# Altium integrated library TI Data Converters Digital to Analog Converter.IntLib: 1533 symbols (part 56 of 99)
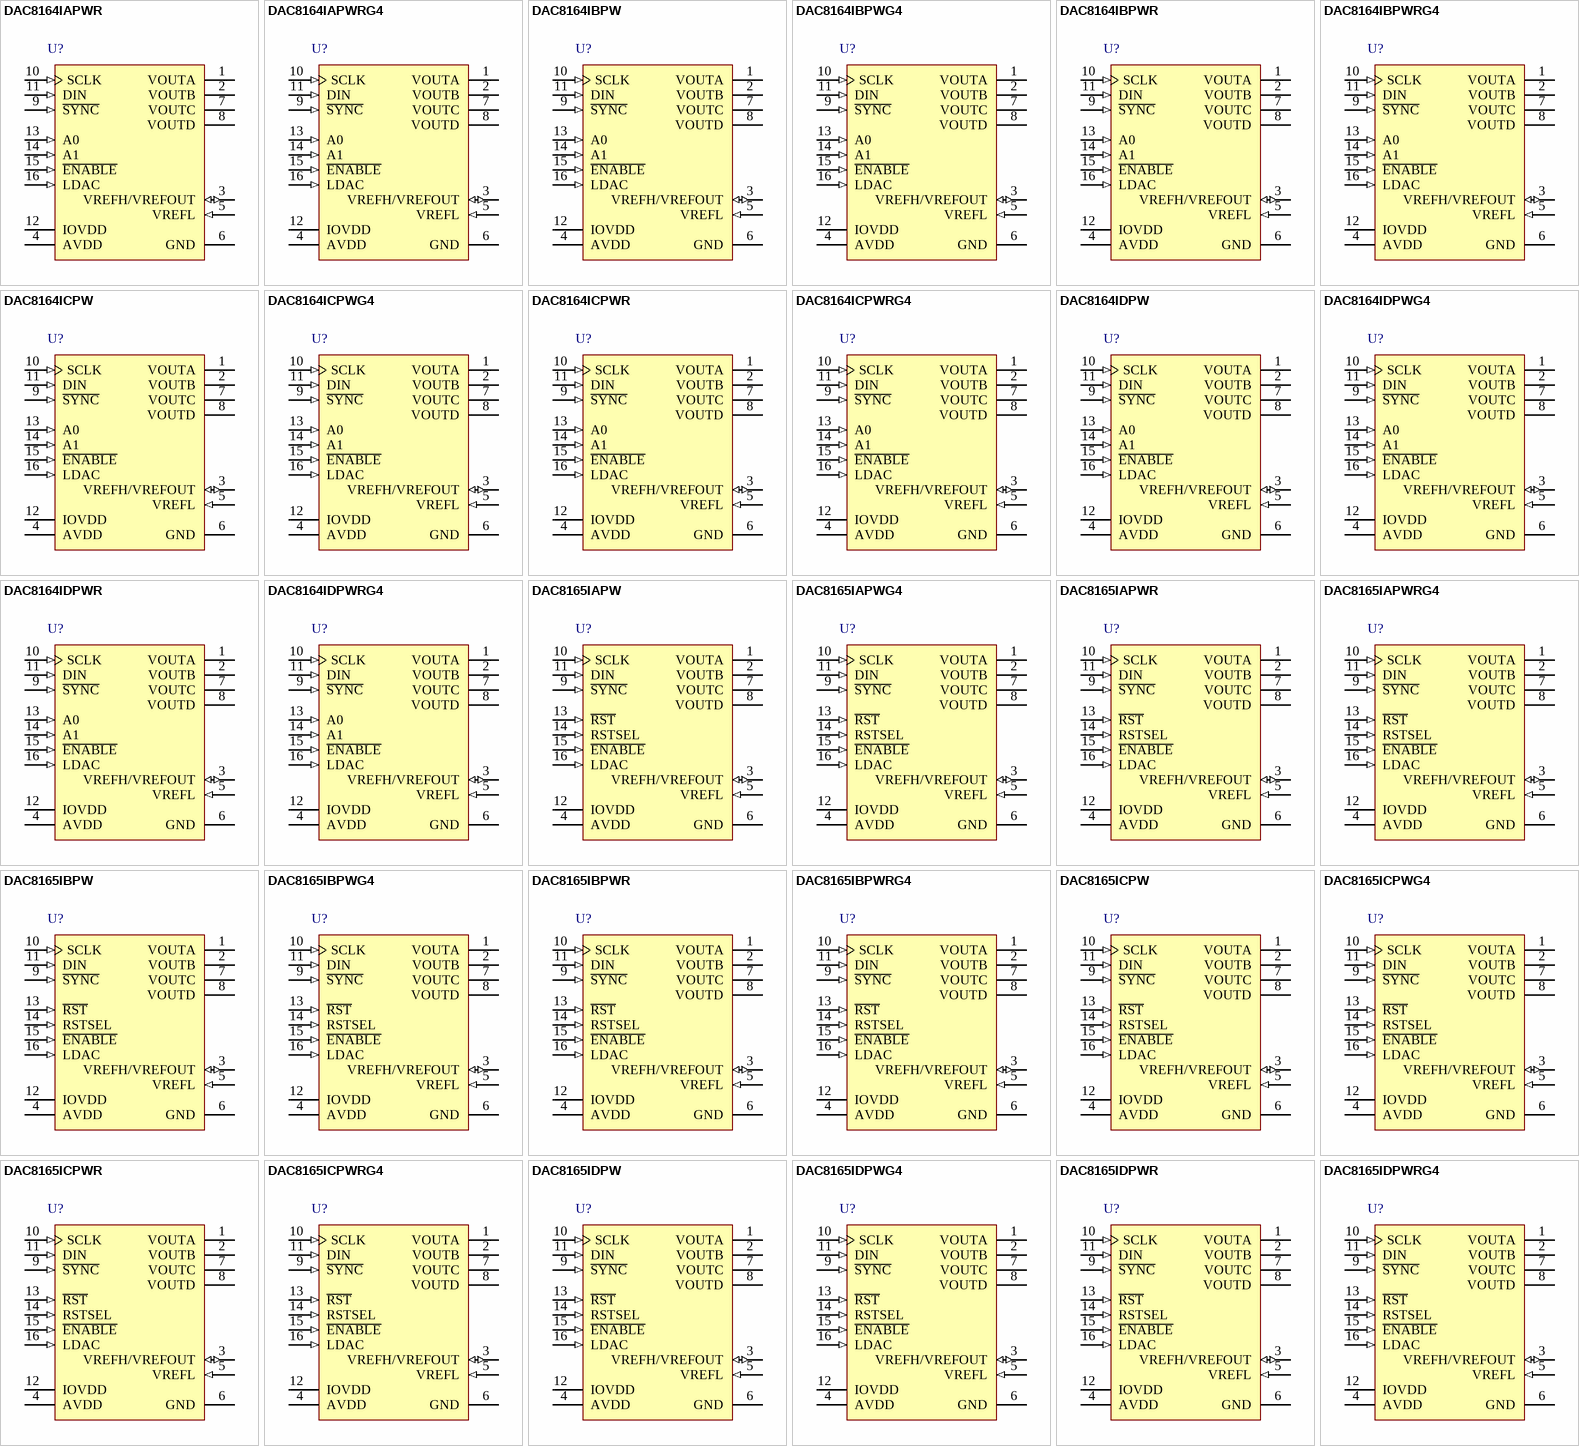
[diagram p128: symbols DAC8164IAPWR to DAC8165IDPWRG4]

## DAC8165IDPWRG4
designator U?
14-Bit, Quad Channel, Ultra-Low Glitch, Voltage Output DAC with 2.5 V, 2 ppm/degC Internal Reference, -40 to 105 degC, 16-pin SOP (PW16), Green (RoHS & no Sb/Br); Manufacturer: Texas Instruments; PartNumber: DAC8165IDPWRG4; DAC Channels: 4; DNL(Max)(+/-LSB): 1; INL(Max)(+/-LSB): 2; Interface: Serial SPI; Power Consumption(Typ)(mW): 2.6; Resolution(Bits): 14; Settling Time(us): 8; SFDR(dB): 79; SNR(dB): 87; SubFamily: Precision DAC (=<10MSPS); DatasheetVersion: SBAS409B; PackageVersion: 4040064-4/G, 02/2011; PackageReference: PW16; PackageDescription: 16-Pin Plastic Small Outline, Body 5 x 4.4 mm, Pitch 0.65 mm; Supplier 1: Digi-Key; Supplier Part Number 1: DAC8165IDPWRG4-ND; Supplier 2: Mouser; Supplier Part Number 2: 595-DAC8165IDPWRG4; Eco-Plan: Green (RoHS & no Sb/Br); Mounting Technology: Surface Mount; Code_JEDEC: MO-153; ComponentLink1Description: Manufacturer URL; ComponentLink1URL: http://www.ti.com/; ComponentLink2Description: Datasheet; ComponentLink2URL: http://www.ti.com/general/docs/lit/getliterature.tsp?genericPartNumber=DAC8165&fileType=pdf; ComponentLink3Description: Package Specification; ComponentLink3URL: http://www.ti.com/lit/ml/mpds361/mpds361.pdf
footprint TI-PW16_N (SOP, 16-Leads, Body 5x4.4mm, Pitch 0.65mm, IPC Medium Density)
footprint TI-PW16_L (SOP, 16-Leads, Body 5x4.4mm, Pitch 0.65mm, IPC High Density)
footprint TI-PW16_M (SOP, 16-Leads, Body 5x4.4mm, Pitch 0.65mm, IPC Low Density)
pins: 1 VOUTA (hiz) "Analog output voltage from DAC A", 2 VOUTB (hiz) "Analog output voltage from DAC B", 3 VREFH/VREFOUT (io) "Positive reference input / reference output 2.5V if internal reference used.", 4 AVDD (power) "Power-supply input, 2.7V to 5.5V", 5 VREFL (in) "Negative reference input", 6 GND (power) "Ground reference point for all circuitry on the part", 7 VOUTC (hiz) "Analog output voltage from DAC C", 8 VOUTD (hiz) "Analog output voltage from DAC D", 9 ~{SYNC} (in) "Level-triggered control input (active low). This input is the frame synchronization signal for the input data. When S\Y\N\C\ goes low, it enables the input shift register, and data are sampled on subsequent falling clock (See Datasheet)", 10 SCLK (in) "Serial clock input. Data can be transferred at rates up to 50MHz. Schmitt-Trigger logic input.", 11 DIN (in) "Serial data input. Data are clocked into the 24-bit input shift register on each falling edge of the serial clock input. Schmitt-Trigger logic input.", 12 IOVDD (power) "Digital input-output power supply", 13 ~{RST} (in) "Asynchronous reset. Active low. If R\S\T\ is low, all DAC channels reset either to zero-scale (RSTSEL = 0) or to mid-scale (RSTSEL = 1)", 14 RSTSEL (in) "Reset select. If RSTSEL is low, input coding is binary; if high = two's complement.", 15 ~{ENABLE} (in) "The enable pin (active low) connects the SPI interface to the serial port", 16 LDAC (in) "Load DACs; rising edge triggered, loads all DAC registers"

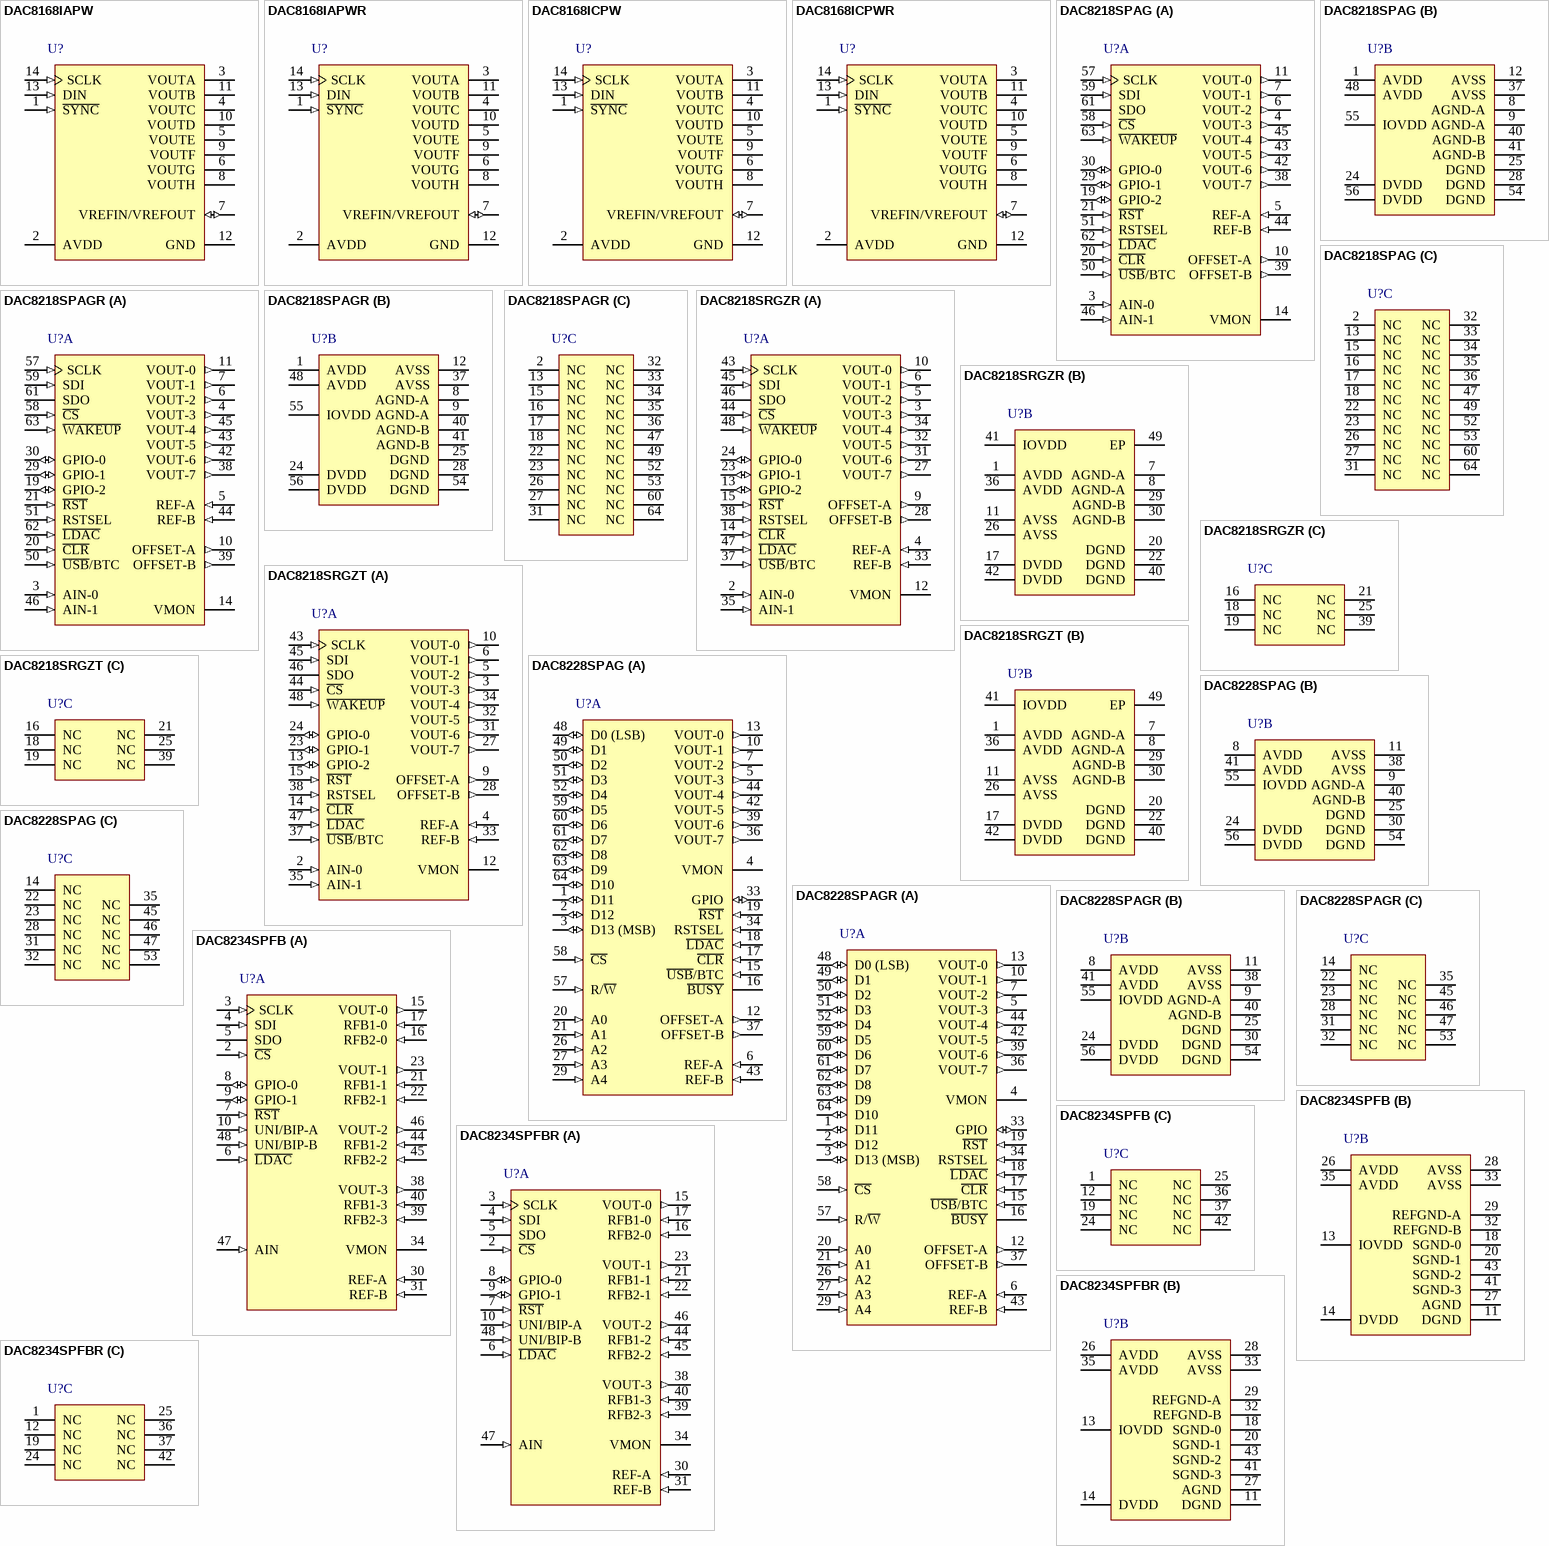
[diagram p44: symbols DAC8168IAPW to DAC8234SPFBR]

## DAC8168IAPW
designator U?
14-Bit, Octal Channel, Ultra-Low Glitch, Voltage Output DAC with 2.5 V, 2 ppm/degC Internal Reference, -40 to 125 degC, 14-pin SOP (PW14), Green (RoHS & no Sb/Br); Manufacturer: Texas Instruments; PartNumber: DAC8168IAPW; DAC Channels: 8; DNL(Max)(+/-LSB): 0.5; INL(Max)(+/-LSB): 4; Interface: Serial SPI; Power Consumption(Typ)(mW): 2.2; Resolution(Bits): 14; Settling Time(us): 5; SFDR(dB): 63; SNR(dB): 83; SubFamily: Precision DAC (=<10MSPS); DatasheetVersion: SBAS430D; PackageVersion: 4040064-3/G, 02/2011; PackageReference: PW14; PackageDescription: 14-Pin Plastic Small Outline, Body 5 x 4.4 mm, Pitch 0.65 mm; Supplier 1: Digi-Key; Supplier Part Number 1: 296-24405-5-ND; Supplier 2: Mouser; Supplier Part Number 2: 595-DAC8168IAPW; Eco-Plan: Green (RoHS & no Sb/Br); Mounting Technology: Surface Mount; Code_JEDEC: MO-153; ComponentLink1Description: Manufacturer URL; ComponentLink1URL: http://www.ti.com/; ComponentLink2Description: Datasheet; ComponentLink2URL: http://www.ti.com/general/docs/lit/getliterature.tsp?genericPartNumber=DAC8168&fileType=pdf; ComponentLink3Description: Package Specification; ComponentLink3URL: http://www.ti.com/litv/pdf/mpds360
footprint TI-PW14_N (SOP, 14-Leads, Body 5x4.4mm, Pitch 0.65mm, IPC Medium Density)
footprint TI-PW14_L (SOP, 14-Leads, Body 5x4.4mm, Pitch 0.65mm, IPC High Density)
footprint TI-PW14_M (SOP, 14-Leads, Body 5x4.4mm, Pitch 0.65mm, IPC Low Density)
pins: 1 ~{SYNC} (in) "Level-triggered control input (active low). This input is the frame synchronization signal for the input data. When S\Y\N\C\ goes low, it enables the input shift register, and data are sampled on subsequent falling clock (See Datasheet)", 2 AVDD (power) "Power-supply input, 2.7V to 5.5V", 3 VOUTA (hiz) "Analog output voltage from DAC A", 4 VOUTC (hiz) "Analog output voltage from DAC C", 5 VOUTE (hiz) "Analog output voltage from DAC E", 6 VOUTG (hiz) "Analog output voltage from DAC G", 7 VREFIN/VREFOUT (io) "Positive reference input / reference output 2.5V if internal reference used.", 8 VOUTH (hiz) "Analog output voltage from DAC H", 9 VOUTF (hiz) "Analog output voltage from DAC F", 10 VOUTD (hiz) "Analog output voltage from DAC D", 11 VOUTB (hiz) "Analog output voltage from DAC B", 12 GND (power) "Ground reference point for all circuitry on the device", 13 DIN (in) "Serial data input. Data are clocked into the 32-bit input shift register on each falling edge of the serial clock input. Schmitt-Trigger logic input.", 14 SCLK (in) "Serial clock input. Data can be transferred at rates up to 50MHz. Schmitt-Trigger logic input."

## DAC8168IAPWR
designator U?
14-Bit, Octal Channel, Ultra-Low Glitch, Voltage Output DAC with 2.5 V, 2 ppm/degC Internal Reference, -40 to 125 degC, 14-pin SOP (PW14), Green (RoHS & no Sb/Br); Manufacturer: Texas Instruments; PartNumber: DAC8168IAPWR; DAC Channels: 8; DNL(Max)(+/-LSB): 0.5; INL(Max)(+/-LSB): 4; Interface: Serial SPI; Power Consumption(Typ)(mW): 2.2; Resolution(Bits): 14; Settling Time(us): 5; SFDR(dB): 63; SNR(dB): 83; SubFamily: Precision DAC (=<10MSPS); DatasheetVersion: SBAS430D; PackageVersion: 4040064-3/G, 02/2011; PackageReference: PW14; PackageDescription: 14-Pin Plastic Small Outline, Body 5 x 4.4 mm, Pitch 0.65 mm; Supplier 1: Digi-Key; Supplier Part Number 1: DAC8168IAPWR-ND; Supplier 2: Mouser; Supplier Part Number 2: 595-DAC8168IAPWR; Eco-Plan: Green (RoHS & no Sb/Br); Mounting Technology: Surface Mount; Code_JEDEC: MO-153; ComponentLink1Description: Manufacturer URL; ComponentLink1URL: http://www.ti.com/; ComponentLink2Description: Datasheet; ComponentLink2URL: http://www.ti.com/general/docs/lit/getliterature.tsp?genericPartNumber=DAC8168&fileType=pdf; ComponentLink3Description: Package Specification; ComponentLink3URL: http://www.ti.com/litv/pdf/mpds360
footprint TI-PW14_N (SOP, 14-Leads, Body 5x4.4mm, Pitch 0.65mm, IPC Medium Density)
footprint TI-PW14_L (SOP, 14-Leads, Body 5x4.4mm, Pitch 0.65mm, IPC High Density)
footprint TI-PW14_M (SOP, 14-Leads, Body 5x4.4mm, Pitch 0.65mm, IPC Low Density)
pins: 1 ~{SYNC} (in) "Level-triggered control input (active low). This input is the frame synchronization signal for the input data. When S\Y\N\C\ goes low, it enables the input shift register, and data are sampled on subsequent falling clock (See Datasheet)", 2 AVDD (power) "Power-supply input, 2.7V to 5.5V", 3 VOUTA (hiz) "Analog output voltage from DAC A", 4 VOUTC (hiz) "Analog output voltage from DAC C", 5 VOUTE (hiz) "Analog output voltage from DAC E", 6 VOUTG (hiz) "Analog output voltage from DAC G", 7 VREFIN/VREFOUT (io) "Positive reference input / reference output 2.5V if internal reference used.", 8 VOUTH (hiz) "Analog output voltage from DAC H", 9 VOUTF (hiz) "Analog output voltage from DAC F", 10 VOUTD (hiz) "Analog output voltage from DAC D", 11 VOUTB (hiz) "Analog output voltage from DAC B", 12 GND (power) "Ground reference point for all circuitry on the device", 13 DIN (in) "Serial data input. Data are clocked into the 32-bit input shift register on each falling edge of the serial clock input. Schmitt-Trigger logic input.", 14 SCLK (in) "Serial clock input. Data can be transferred at rates up to 50MHz. Schmitt-Trigger logic input."

## DAC8168ICPW
designator U?
14-Bit, Octal Channel, Ultra-Low Glitch, Voltage Output DAC with 2.5 V, 2 ppm/degC Internal Reference, -40 to 125 degC, 16-pin SOP (PW16), Green (RoHS & no Sb/Br); Manufacturer: Texas Instruments; PartNumber: DAC8168ICPW; DAC Channels: 8; DNL(Max)(+/-LSB): 0.5; INL(Max)(+/-LSB): 4; Interface: Serial SPI; Power Consumption(Typ)(mW): 2.2; Resolution(Bits): 14; Settling Time(us): 5; SFDR(dB): 63; SNR(dB): 83; SubFamily: Precision DAC (=<10MSPS); DatasheetVersion: SBAS430D; PackageVersion: 4040064-4/G, 02/2011; PackageReference: PW16; PackageDescription: 16-Pin Plastic Small Outline, Body 5 x 4.4 mm, Pitch 0.65 mm; Supplier 1: Digi-Key; Supplier Part Number 1: 296-24406-5-ND; Supplier 2: Farnell; Supplier Part Number 2: 1735562; Supplier 3: Newark; Supplier Part Number 3: 08R4453; Supplier 4: Mouser; Supplier Part Number 4: 595-DAC8168ICPW; Eco-Plan: Green (RoHS & no Sb/Br); Mounting Technology: Surface Mount; Code_JEDEC: MO-153; ComponentLink1Description: Manufacturer URL; ComponentLink1URL: http://www.ti.com/; ComponentLink2Description: Datasheet; ComponentLink2URL: http://www.ti.com/general/docs/lit/getliterature.tsp?genericPartNumber=DAC8168&fileType=pdf; ComponentLink3Description: Package Specification; ComponentLink3URL: http://www.ti.com/lit/ml/mpds361/mpds361.pdf
footprint TI-PW16_N (SOP, 16-Leads, Body 5x4.4mm, Pitch 0.65mm, IPC Medium Density)
footprint TI-PW16_L (SOP, 16-Leads, Body 5x4.4mm, Pitch 0.65mm, IPC High Density)
footprint TI-PW16_M (SOP, 16-Leads, Body 5x4.4mm, Pitch 0.65mm, IPC Low Density)
pins: 1 ~{SYNC} (in) "Level-triggered control input (active low). This input is the frame synchronization signal for the input data. When S\Y\N\C\ goes low, it enables the input shift register, and data are sampled on subsequent falling clock (See Datasheet)", 2 AVDD (power) "Power-supply input, 2.7V to 5.5V", 3 VOUTA (hiz) "Analog output voltage from DAC A", 4 VOUTC (hiz) "Analog output voltage from DAC C", 5 VOUTE (hiz) "Analog output voltage from DAC E", 6 VOUTG (hiz) "Analog output voltage from DAC G", 7 VREFIN/VREFOUT (io) "Positive reference input / reference output 2.5V if internal reference used.", 8 VOUTH (hiz) "Analog output voltage from DAC H", 9 VOUTF (hiz) "Analog output voltage from DAC F", 10 VOUTD (hiz) "Analog output voltage from DAC D", 11 VOUTB (hiz) "Analog output voltage from DAC B", 12 GND (power) "Ground reference point for all circuitry on the device", 13 DIN (in) "Serial data input. Data are clocked into the 32-bit input shift register on each falling edge of the serial clock input. Schmitt-Trigger logic input.", 14 SCLK (in) "Serial clock input. Data can be transferred at rates up to 50MHz. Schmitt-Trigger logic input."

## DAC8168ICPWR
designator U?
14-Bit, Octal Channel, Ultra-Low Glitch, Voltage Output DAC with 2.5 V, 2 ppm/degC Internal Reference, -40 to 125 degC, 16-pin SOP (PW16), Green (RoHS & no Sb/Br); Manufacturer: Texas Instruments; PartNumber: DAC8168ICPWR; DAC Channels: 8; DNL(Max)(+/-LSB): 0.5; INL(Max)(+/-LSB): 4; Interface: Serial SPI; Power Consumption(Typ)(mW): 2.2; Resolution(Bits): 14; Settling Time(us): 5; SFDR(dB): 63; SNR(dB): 83; SubFamily: Precision DAC (=<10MSPS); DatasheetVersion: SBAS430D; PackageVersion: 4040064-4/G, 02/2011; PackageReference: PW16; PackageDescription: 16-Pin Plastic Small Outline, Body 5 x 4.4 mm, Pitch 0.65 mm; Supplier 1: Digi-Key; Supplier Part Number 1: DAC8168ICPWR-ND; Supplier 2: Mouser; Supplier Part Number 2: 595-DAC8168ICPWR; Eco-Plan: Green (RoHS & no Sb/Br); Mounting Technology: Surface Mount; Code_JEDEC: MO-153; ComponentLink1Description: Manufacturer URL; ComponentLink1URL: http://www.ti.com/; ComponentLink2Description: Datasheet; ComponentLink2URL: http://www.ti.com/general/docs/lit/getliterature.tsp?genericPartNumber=DAC8168&fileType=pdf; ComponentLink3Description: Package Specification; ComponentLink3URL: http://www.ti.com/lit/ml/mpds361/mpds361.pdf
footprint TI-PW16_N (SOP, 16-Leads, Body 5x4.4mm, Pitch 0.65mm, IPC Medium Density)
footprint TI-PW16_L (SOP, 16-Leads, Body 5x4.4mm, Pitch 0.65mm, IPC High Density)
footprint TI-PW16_M (SOP, 16-Leads, Body 5x4.4mm, Pitch 0.65mm, IPC Low Density)
pins: 1 ~{SYNC} (in) "Level-triggered control input (active low). This input is the frame synchronization signal for the input data. When S\Y\N\C\ goes low, it enables the input shift register, and data are sampled on subsequent falling clock (See Datasheet)", 2 AVDD (power) "Power-supply input, 2.7V to 5.5V", 3 VOUTA (hiz) "Analog output voltage from DAC A", 4 VOUTC (hiz) "Analog output voltage from DAC C", 5 VOUTE (hiz) "Analog output voltage from DAC E", 6 VOUTG (hiz) "Analog output voltage from DAC G", 7 VREFIN/VREFOUT (io) "Positive reference input / reference output 2.5V if internal reference used.", 8 VOUTH (hiz) "Analog output voltage from DAC H", 9 VOUTF (hiz) "Analog output voltage from DAC F", 10 VOUTD (hiz) "Analog output voltage from DAC D", 11 VOUTB (hiz) "Analog output voltage from DAC B", 12 GND (power) "Ground reference point for all circuitry on the device", 13 DIN (in) "Serial data input. Data are clocked into the 32-bit input shift register on each falling edge of the serial clock input. Schmitt-Trigger logic input.", 14 SCLK (in) "Serial clock input. Data can be transferred at rates up to 50MHz. Schmitt-Trigger logic input."

## DAC8218SPAG
designator U?
Octal, Low power ,14-Bit, +/- 16.5 V Output Serial Input DAC, -40 to 105 degC, 64-pin QFP (PAG64), Green (RoHS & no Sb/Br); Manufacturer: Texas Instruments; PartNumber: DAC8218SPAG; DAC Channels: 8; DNL(Max)(+/-LSB): 1; Interface: Serial SPI; Power Consumption(Typ)(mW): 140; Resolution(Bits): 14; Settling Time(us): 15; SubFamily: Precision DAC (=<10MSPS); DatasheetVersion: SBAS460A; PackageVersion: 4040282/C, 11/1996; PackageReference: PAG64; PackageDescription: 64-Pin Plastic Flat Pack, Body 10 x 10 mm, Pitch 0.50 mm; Supplier 1: Digi-Key; Supplier Part Number 1: 296-27422-5-ND; Supplier 2: Mouser; Supplier Part Number 2: 595-DAC8218SPAG; Eco-Plan: Green (RoHS & no Sb/Br); INL(Max)(+/-LSB): 1; Mounting Technology: Surface Mount; Code_JEDEC: MS-026; ComponentLink1Description: Manufacturer URL; ComponentLink1URL: http://www.ti.com/; ComponentLink2Description: Datasheet; ComponentLink2URL: http://www.ti.com/general/docs/lit/getliterature.tsp?genericPartNumber=DAC8218&fileType=pdf; ComponentLink3Description: Package Specification; ComponentLink3URL: http://www.ti.com/lit/ml/mtqf006a/mtqf006a.pdf
footprint TI-PAG64_N (QFP, 64-Leads, Body 10x10mm, Pitch 0.5mm, IPC Medium Density)
footprint TI-PAG64_L (QFP, 64-Leads, Body 10x10mm, Pitch 0.5mm, IPC High Density)
footprint TI-PAG64_M (QFP, 64-Leads, Body 10x10mm, Pitch 0.5mm, IPC Low Density)
part A pins: 3 AIN-0 (in) "Auxiliary analog input 0, directly routed to the analog mux", 4 VOUT-3 (out) "DAC-3 output", 5 REF-A (in) "Group A(1) reference input", 6 VOUT-2 (out) "DAC-2 output", 7 VOUT-1 (out) "DAC-1 output", 10 OFFSET-A (out) "OFFSET DAC-A analog output. Must be connected to AGND-A during single power-supply operation (AVSS = 0V). This pin is not intended to drive an external load.", 11 VOUT-0 (out) "DAC-0 output", 14 VMON (hiz) "Analog monitor output. This pin is either in Hi-Z status, connected to one of the eight DAC outputs, reference buffer outputs, offset DAC outputs, or one of the auxiliary analog inputs, depending on the content of the (See Datasheet)", 19 GPIO-2 (io) "General-purpose digital input/output 2. This pin is a bidirectional digital input/output, open-drain and requires an external pull-up resistor. See the GPIO Pins section for details.", 20 ~{CLR} (in) "Clear input, level triggered. When the C\L\R\ pin is logic '0', all VOUT-X pins connect to AGND-x through switches and internal low-impedance. When the C\L\R\ pin is logic '1', all VOUT-X pins connect to the amplifier (See Datasheet)", 21 ~{RST} (in) "Reset input (active low). Logic low on this pin resets the DAC registers and DACs to the values defined by the RSTSEL pin. C\S\ must be logic high when R\S\T\ is active.", 29 GPIO-1 (io) "General-purpose digital input/output 1. This pin is a bidirectional digital input/output, open-drain and requires an external resistor. See the GPIO Pins section for details.", 30 GPIO-0 (io) "General-purpose digital input/output 0. This pin is a bidirectional digital input/output, open-drain and requires an external resistor. See the GPIO Pins section for details.", 38 VOUT-7 (out) "DAC-7 output", 39 OFFSET-B (out) "OFFSET DAC-B analog output. Must be connected to AGND-B during single-supply operation (AVSS = 0V).", 42 VOUT-6 (out) "DAC-6 output", 43 VOUT-5 (out) "DAC-5 output", 44 REF-B (in) "Group B reference input", 45 VOUT-4 (out) "DAC-4 output", 46 AIN-1 (in) "Auxiliary analog input 1, directly routed to the analog mux", 50 ~{USB}/BTC (in) "Data format selection of Input DAC data and Offset DAC data. Data are in straight binary format when connected to DGND or in twos complement format when connected to IOVDD. The command data are always in straight binary (See Datasheet)", 51 RSTSEL (in) "Output reset selection. Selects the output voltage on the VOUT pin after power-on or hardware reset. Refer to the Power-On Reset section for details.", 57 SCLK (in) "SPI bus serial clock input", 58 ~{CS} (in) "SPI bus chip select input (active low). Data are not clocked into SDI unless C\S\ is low. When C\S\ is high, SDO is in a high-impedance state and the SCLK and SDI signals are blocked from the device.", 59 SDI (in) "SPI bus serial data input", 61 SDO (hiz) "SPI bus serial data output. When the DSDO bit = '0', the SDO pin works as an output in normal operation. When the DSDO bit = '1', SDO is always in a Hi-Z state, regardless of the C\S\ pin status. Refer to the Timing Diagrams (See Datasheet)", 62 ~{LDAC} (in) "Load DAC latch control input (active low). When L\D\A\C\ is low, the DAC latch is transparent and the contents of the DAC Data Register are transferred to it. The DAC output changes to the corresponding level simultaneously (See Datasheet)", 63 ~{WAKEUP} (in) "Wake-up input (active low). Restores the SPI from sleep to normal operation. See the Daisy-Chain Operation section for details."
part B pins: 1 AVDD (power) "Positive analog power supply", 8 AGND-A (power) "Group A analog ground and the ground of REF-A. This pin must be tied to AGND-B and DGND.", 9 AGND-A (power) "Group A analog ground and the ground of REF-A. This pin must be tied to AGND-B and DGND.", 12 AVSS (power) "Negative analog power supply", 24 DVDD (power) "Digital power supply", 25 DGND (power) "Digital ground", 28 DGND (power) "Digital ground", 37 AVSS (power) "Negative analog power supply", 40 AGND-B (power) "Group B(1) analog ground and the ground of REF-B. This pin must be tied to AGND-A and DGND.", 41 AGND-B (power) "Group B analog ground and the ground of REF-B. This pin must be tied to AGND-A and DGND.", 48 AVDD (power) "Positive analog power supply", 54 DGND (power) "Digital ground", 55 IOVDD (power) "Interface power", 56 DVDD (power) "Digital power supply"
part C pins: 2 NC "Not connected", 13 NC "Not connected", 15 NC "Not connected", 16 NC "Not connected", 17 NC "Not connected", 18 NC "Not connected", 22 NC "Not connected", 23 NC "Not connected", 26 NC "Not connected", 27 NC "Not connected", 31 NC "Not connected", 32 NC "Not connected", 33 NC "Not connected", 34 NC "Not connected", 35 NC "Not connected", 36 NC "Not connected", 47 NC "Not connected", 49 NC "Not connected", 52 NC "Not connected", 53 NC "Not connected", 60 NC "Not connected", 64 NC "Not connected"

## DAC8218SPAGR
designator U?
Octal, Low power ,14-Bit, +/- 16.5 V Output Serial Input DAC, -40 to 105 degC, 64-pin QFP (PAG64), Green (RoHS & no Sb/Br); Manufacturer: Texas Instruments; PartNumber: DAC8218SPAGR; DAC Channels: 8; DNL(Max)(+/-LSB): 1; Interface: Serial SPI; Power Consumption(Typ)(mW): 140; Resolution(Bits): 14; Settling Time(us): 15; SubFamily: Precision DAC (=<10MSPS); DatasheetVersion: SBAS460A; PackageVersion: 4040282/C, 11/1996; PackageReference: PAG64; PackageDescription: 64-Pin Plastic Flat Pack, Body 10 x 10 mm, Pitch 0.50 mm; Supplier 1: Digi-Key; Supplier Part Number 1: DAC8218SPAGR-ND; Supplier 2: Mouser; Supplier Part Number 2: 595-DAC8218SPAGR; Eco-Plan: Green (RoHS & no Sb/Br); INL(Max)(+/-LSB): 1; Mounting Technology: Surface Mount; Code_JEDEC: MS-026; ComponentLink1Description: Manufacturer URL; ComponentLink1URL: http://www.ti.com/; ComponentLink2Description: Datasheet; ComponentLink2URL: http://www.ti.com/general/docs/lit/getliterature.tsp?genericPartNumber=DAC8218&fileType=pdf; ComponentLink3Description: Package Specification; ComponentLink3URL: http://www.ti.com/lit/ml/mtqf006a/mtqf006a.pdf
footprint TI-PAG64_N (QFP, 64-Leads, Body 10x10mm, Pitch 0.5mm, IPC Medium Density)
footprint TI-PAG64_L (QFP, 64-Leads, Body 10x10mm, Pitch 0.5mm, IPC High Density)
footprint TI-PAG64_M (QFP, 64-Leads, Body 10x10mm, Pitch 0.5mm, IPC Low Density)
part A pins: 3 AIN-0 (in) "Auxiliary analog input 0, directly routed to the analog mux", 4 VOUT-3 (out) "DAC-3 output", 5 REF-A (in) "Group A(1) reference input", 6 VOUT-2 (out) "DAC-2 output", 7 VOUT-1 (out) "DAC-1 output", 10 OFFSET-A (out) "OFFSET DAC-A analog output. Must be connected to AGND-A during single power-supply operation (AVSS = 0V). This pin is not intended to drive an external load.", 11 VOUT-0 (out) "DAC-0 output", 14 VMON (hiz) "Analog monitor output. This pin is either in Hi-Z status, connected to one of the eight DAC outputs, reference buffer outputs, offset DAC outputs, or one of the auxiliary analog inputs, depending on the content of the (See Datasheet)", 19 GPIO-2 (io) "General-purpose digital input/output 2. This pin is a bidirectional digital input/output, open-drain and requires an external pull-up resistor. See the GPIO Pins section for details.", 20 ~{CLR} (in) "Clear input, level triggered. When the C\L\R\ pin is logic '0', all VOUT-X pins connect to AGND-x through switches and internal low-impedance. When the C\L\R\ pin is logic '1', all VOUT-X pins connect to the amplifier (See Datasheet)", 21 ~{RST} (in) "Reset input (active low). Logic low on this pin resets the DAC registers and DACs to the values defined by the RSTSEL pin. C\S\ must be logic high when R\S\T\ is active.", 29 GPIO-1 (io) "General-purpose digital input/output 1. This pin is a bidirectional digital input/output, open-drain and requires an external resistor. See the GPIO Pins section for details.", 30 GPIO-0 (io) "General-purpose digital input/output 0. This pin is a bidirectional digital input/output, open-drain and requires an external resistor. See the GPIO Pins section for details.", 38 VOUT-7 (out) "DAC-7 output", 39 OFFSET-B (out) "OFFSET DAC-B analog output. Must be connected to AGND-B during single-supply operation (AVSS = 0V).", 42 VOUT-6 (out) "DAC-6 output", 43 VOUT-5 (out) "DAC-5 output", 44 REF-B (in) "Group B reference input", 45 VOUT-4 (out) "DAC-4 output", 46 AIN-1 (in) "Auxiliary analog input 1, directly routed to the analog mux", 50 ~{USB}/BTC (in) "Data format selection of Input DAC data and Offset DAC data. Data are in straight binary format when connected to DGND or in twos complement format when connected to IOVDD. The command data are always in straight binary (See Datasheet)", 51 RSTSEL (in) "Output reset selection. Selects the output voltage on the VOUT pin after power-on or hardware reset. Refer to the Power-On Reset section for details.", 57 SCLK (in) "SPI bus serial clock input", 58 ~{CS} (in) "SPI bus chip select input (active low). Data are not clocked into SDI unless C\S\ is low. When C\S\ is high, SDO is in a high-impedance state and the SCLK and SDI signals are blocked from the device.", 59 SDI (in) "SPI bus serial data input", 61 SDO (hiz) "SPI bus serial data output. When the DSDO bit = '0', the SDO pin works as an output in normal operation. When the DSDO bit = '1', SDO is always in a Hi-Z state, regardless of the C\S\ pin status. Refer to the Timing Diagrams (See Datasheet)", 62 ~{LDAC} (in) "Load DAC latch control input (active low). When L\D\A\C\ is low, the DAC latch is transparent and the contents of the DAC Data Register are transferred to it. The DAC output changes to the corresponding level simultaneously (See Datasheet)", 63 ~{WAKEUP} (in) "Wake-up input (active low). Restores the SPI from sleep to normal operation. See the Daisy-Chain Operation section for details."
part B pins: 1 AVDD (power) "Positive analog power supply", 8 AGND-A (power) "Group A analog ground and the ground of REF-A. This pin must be tied to AGND-B and DGND.", 9 AGND-A (power) "Group A analog ground and the ground of REF-A. This pin must be tied to AGND-B and DGND.", 12 AVSS (power) "Negative analog power supply", 24 DVDD (power) "Digital power supply", 25 DGND (power) "Digital ground", 28 DGND (power) "Digital ground", 37 AVSS (power) "Negative analog power supply", 40 AGND-B (power) "Group B(1) analog ground and the ground of REF-B. This pin must be tied to AGND-A and DGND.", 41 AGND-B (power) "Group B analog ground and the ground of REF-B. This pin must be tied to AGND-A and DGND.", 48 AVDD (power) "Positive analog power supply", 54 DGND (power) "Digital ground", 55 IOVDD (power) "Interface power", 56 DVDD (power) "Digital power supply"
part C pins: 2 NC "Not connected", 13 NC "Not connected", 15 NC "Not connected", 16 NC "Not connected", 17 NC "Not connected", 18 NC "Not connected", 22 NC "Not connected", 23 NC "Not connected", 26 NC "Not connected", 27 NC "Not connected", 31 NC "Not connected", 32 NC "Not connected", 33 NC "Not connected", 34 NC "Not connected", 35 NC "Not connected", 36 NC "Not connected", 47 NC "Not connected", 49 NC "Not connected", 52 NC "Not connected", 53 NC "Not connected", 60 NC "Not connected", 64 NC "Not connected"

## DAC8218SRGZR
designator U?
Octal, Low power ,14-Bit, +/- 16.5 V Output Serial Input DAC, -40 to 105 degC, 48-pin QFN (RGZ48), Green (RoHS & no Sb/Br); Manufacturer: Texas Instruments; PartNumber: DAC8218SRGZR; DAC Channels: 8; DNL(Max)(+/-LSB): 1; Interface: Serial SPI; Power Consumption(Typ)(mW): 140; Resolution(Bits): 14; Settling Time(us): 15; SubFamily: Precision DAC (=<10MSPS); DatasheetVersion: SBAS460A; PackageVersion: 4204101/F, 06/2011; PackageReference: RGZ48-5600X5600TP; PackageDescription: 48-Lead, Plastic Flat Pack, Body Size 7 x 7 mm, Pitch 0.5 mm; Supplier 1: Digi-Key; Supplier Part Number 1: DAC8218SRGZR-ND; Supplier 2: Mouser; Supplier Part Number 2: 595-DAC8218SRGZR; Eco-Plan: Green (RoHS & no Sb/Br); INL(Max)(+/-LSB): 1; Mounting Technology: Surface Mount; Code_JEDEC: MO-220; ComponentLink1Description: Manufacturer URL; ComponentLink1URL: http://www.ti.com/; ComponentLink2Description: Datasheet; ComponentLink2URL: http://www.ti.com/general/docs/lit/getliterature.tsp?genericPartNumber=DAC8218&fileType=pdf; ComponentLink3Description: Package Specification; ComponentLink3URL: http://www.ti.com/lit/ml/mpqf123e/mpqf123e.pdf
footprint TI-RGZ48-5600X5600TP_V (QFN, 48-Leads, Body 7x7mm, Pitch 0.5mm, Thermal Pad 5.6x5.6mm)
part A pins: 2 AIN-0 (in) "Auxiliary analog input 0, directly routed to the analog mux", 3 VOUT-3 (out) "DAC-3 output", 4 REF-A (in) "Group A(1) reference input", 5 VOUT-2 (out) "DAC-2 output", 6 VOUT-1 (out) "DAC-1 output", 9 OFFSET-A (out) "OFFSET DAC-A analog output. Must be connected to AGND-A during single power-supply operation (AVSS = 0V). This pin is not intended to drive an external load.", 10 VOUT-0 (out) "DAC-0 output", 12 VMON (hiz) "Analog monitor output. This pin is either in Hi-Z status, connected to one of the eight DAC outputs, reference buffer outputs, offset DAC outputs, or one of the auxiliary analog inputs, depending on the content of the (See Datasheet)", 13 GPIO-2 (io) "General-purpose digital input/output 2. This pin is a bidirectional digital input/output, open-drain and requires an external pull-up resistor. See the GPIO Pins section for details.", 14 ~{CLR} (in) "Clear input, level triggered. When the C\L\R\ pin is logic '0', all VOUT-X pins connect to AGND-x through switches and internal low-impedance. When the C\L\R\ pin is logic '1', all VOUT-X pins connect to the amplifier (See Datasheet)", 15 ~{RST} (in) "Reset input (active low). Logic low on this pin resets the DAC registers and DACs to the values defined by the RSTSEL pin. C\S\ must be logic high when R\S\T\ is active.", 23 GPIO-1 (io) "General-purpose digital input/output 1. This pin is a bidirectional digital input/output, open-drain and requires an external resistor. See the GPIO Pins section for details.", 24 GPIO-0 (io) "General-purpose digital input/output 0. This pin is a bidirectional digital input/output, open-drain and requires an external resistor. See the GPIO Pins section for details.", 27 VOUT-7 (out) "DAC-7 output", 28 OFFSET-B (out) "OFFSET DAC-B analog output. Must be connected to AGND-B during single-supply operation (AVSS = 0V).", 31 VOUT-6 (out) "DAC-6 output", 32 VOUT-5 (out) "DAC-5 output", 33 REF-B (in) "Group B reference input", 34 VOUT-4 (out) "DAC-4 output", 35 AIN-1 (in) "Auxiliary analog input 1, directly routed to the analog mux", 37 ~{USB}/BTC (in) "Data format selection of Input DAC data and Offset DAC data. Data are in straight binary format when connected to DGND or in twos complement format when connected to IOVDD. The command data are always in straight binary (See Datasheet)", 38 RSTSEL (in) "Output reset selection. Selects the output voltage on the VOUT pin after power-on or hardware reset. Refer to the Power-On Reset section for details.", 43 SCLK (in) "SPI bus serial clock input", 44 ~{CS} (in) "SPI bus chip select input (active low). Data are not clocked into SDI unless C\S\ is low. When C\S\ is high, SDO is in a high-impedance state and the SCLK and SDI signals are blocked from the device.", 45 SDI (in) "SPI bus serial data input", 46 SDO (hiz) "SPI bus serial data output. When the DSDO bit = '0', the SDO pin works as an output in normal operation. When the DSDO bit = '1', SDO is always in a Hi-Z state, regardless of the CS pin status. Refer to the Timing Diagrams (See Datasheet)", 47 ~{LDAC} (in) "Load DAC latch control input (active low). When L\D\A\C\ is low, the DAC latch is transparent and the contents of the DAC Data Register are transferred to it. The DAC output changes to the corresponding level simultaneously (See Datasheet)", 48 ~{WAKEUP} (in) "Wake-up input (active low). Restores the SPI from sleep to normal operation. See the Daisy-Chain Operation section for details."
part B pins: 1 AVDD (power) "Positive analog power supply", 7 AGND-A (power) "Group A analog ground and the ground of REF-A. This pin must be tied to AGND-B and DGND.", 8 AGND-A (power) "Group A analog ground and the ground of REF-A. This pin must be tied to AGND-B and DGND.", 11 AVSS (power) "Negative analog power supply", 17 DVDD (power) "Digital power supply", 20 DGND (power) "Digital ground", 22 DGND (power) "Digital ground", 26 AVSS (power) "Negative analog power supply", 29 AGND-B (power) "Group B(1) analog ground and the ground of REF-B. This pin must be tied to AGND-A and DGND.", 30 AGND-B (power) "Group B analog ground and the ground of REF-B. This pin must be tied to AGND-A and DGND.", 36 AVDD (power) "Positive analog power supply", 40 DGND (power) "Digital ground", 41 IOVDD (power) "Interface power", 42 DVDD (power) "Digital power supply", 49 EP "The thermal pad is internally connected to the substrate. This pad can be connected to AVSS or left floating. Keep the thermal pad separate from the digital ground, if possible."
part C pins: 16 NC "Not connected", 18 NC "Not connected", 19 NC "Not connected", 21 NC "Not connected", 25 NC "Not connected", 39 NC "Not connected"

## DAC8218SRGZT
designator U?
Octal, Low power ,14-Bit, +/- 16.5 V Output Serial Input DAC, -40 to 105 degC, 48-pin QFN (RGZ48), Green (RoHS & no Sb/Br); Manufacturer: Texas Instruments; PartNumber: DAC8218SRGZT; DAC Channels: 8; DNL(Max)(+/-LSB): 1; Interface: Serial SPI; Power Consumption(Typ)(mW): 140; Resolution(Bits): 14; Settling Time(us): 15; SubFamily: Precision DAC (=<10MSPS); DatasheetVersion: SBAS460A; PackageVersion: 4204101/F, 06/2011; PackageReference: RGZ48-5600X5600TP; PackageDescription: 48-Lead, Plastic Flat Pack, Body Size 7 x 7 mm, Pitch 0.5 mm; Supplier 1: Digi-Key; Supplier Part Number 1: 296-25559-2-ND; Supplier 2: Digi-Key; Supplier Part Number 2: 296-25559-1-ND; Supplier 3: Digi-Key; Supplier Part Number 3: 296-25559-6-ND; Supplier 4: Farnell; Supplier Part Number 4: 1815724; Supplier 5: Newark; Supplier Part Number 5: 60R2410; Supplier 6: Mouser; Supplier Part Number 6: 595-DAC8218SRGZT; Eco-Plan: Green (RoHS & no Sb/Br); INL(Max)(+/-LSB): 1; Mounting Technology: Surface Mount; Code_JEDEC: MO-220; ComponentLink1Description: Manufacturer URL; ComponentLink1URL: http://www.ti.com/; ComponentLink2Description: Datasheet; ComponentLink2URL: http://www.ti.com/general/docs/lit/getliterature.tsp?genericPartNumber=DAC8218&fileType=pdf; ComponentLink3Description: Package Specification; ComponentLink3URL: http://www.ti.com/lit/ml/mpqf123e/mpqf123e.pdf
footprint TI-RGZ48-5600X5600TP_V (QFN, 48-Leads, Body 7x7mm, Pitch 0.5mm, Thermal Pad 5.6x5.6mm)
part A pins: 2 AIN-0 (in) "Auxiliary analog input 0, directly routed to the analog mux", 3 VOUT-3 (out) "DAC-3 output", 4 REF-A (in) "Group A(1) reference input", 5 VOUT-2 (out) "DAC-2 output", 6 VOUT-1 (out) "DAC-1 output", 9 OFFSET-A (out) "OFFSET DAC-A analog output. Must be connected to AGND-A during single power-supply operation (AVSS = 0V). This pin is not intended to drive an external load.", 10 VOUT-0 (out) "DAC-0 output", 12 VMON (hiz) "Analog monitor output. This pin is either in Hi-Z status, connected to one of the eight DAC outputs, reference buffer outputs, offset DAC outputs, or one of the auxiliary analog inputs, depending on the content of the (See Datasheet)", 13 GPIO-2 (io) "General-purpose digital input/output 2. This pin is a bidirectional digital input/output, open-drain and requires an external pull-up resistor. See the GPIO Pins section for details.", 14 ~{CLR} (in) "Clear input, level triggered. When the C\L\R\ pin is logic '0', all VOUT-X pins connect to AGND-x through switches and internal low-impedance. When the C\L\R\ pin is logic '1', all VOUT-X pins connect to the amplifier (See Datasheet)", 15 ~{RST} (in) "Reset input (active low). Logic low on this pin resets the DAC registers and DACs to the values defined by the RSTSEL pin. C\S\ must be logic high when R\S\T\ is active.", 23 GPIO-1 (io) "General-purpose digital input/output 1. This pin is a bidirectional digital input/output, open-drain and requires an external resistor. See the GPIO Pins section for details.", 24 GPIO-0 (io) "General-purpose digital input/output 0. This pin is a bidirectional digital input/output, open-drain and requires an external resistor. See the GPIO Pins section for details.", 27 VOUT-7 (out) "DAC-7 output", 28 OFFSET-B (out) "OFFSET DAC-B analog output. Must be connected to AGND-B during single-supply operation (AVSS = 0V).", 31 VOUT-6 (out) "DAC-6 output", 32 VOUT-5 (out) "DAC-5 output", 33 REF-B (in) "Group B reference input", 34 VOUT-4 (out) "DAC-4 output", 35 AIN-1 (in) "Auxiliary analog input 1, directly routed to the analog mux", 37 ~{USB}/BTC (in) "Data format selection of Input DAC data and Offset DAC data. Data are in straight binary format when connected to DGND or in twos complement format when connected to IOVDD. The command data are always in straight binary (See Datasheet)", 38 RSTSEL (in) "Output reset selection. Selects the output voltage on the VOUT pin after power-on or hardware reset. Refer to the Power-On Reset section for details.", 43 SCLK (in) "SPI bus serial clock input", 44 ~{CS} (in) "SPI bus chip select input (active low). Data are not clocked into SDI unless C\S\ is low. When C\S\ is high, SDO is in a high-impedance state and the SCLK and SDI signals are blocked from the device.", 45 SDI (in) "SPI bus serial data input", 46 SDO (hiz) "SPI bus serial data output. When the DSDO bit = '0', the SDO pin works as an output in normal operation. When the DSDO bit = '1', SDO is always in a Hi-Z state, regardless of the CS pin status. Refer to the Timing Diagrams (See Datasheet)", 47 ~{LDAC} (in) "Load DAC latch control input (active low). When L\D\A\C\ is low, the DAC latch is transparent and the contents of the DAC Data Register are transferred to it. The DAC output changes to the corresponding level simultaneously (See Datasheet)", 48 ~{WAKEUP} (in) "Wake-up input (active low). Restores the SPI from sleep to normal operation. See the Daisy-Chain Operation section for details."
part B pins: 1 AVDD (power) "Positive analog power supply", 7 AGND-A (power) "Group A analog ground and the ground of REF-A. This pin must be tied to AGND-B and DGND.", 8 AGND-A (power) "Group A analog ground and the ground of REF-A. This pin must be tied to AGND-B and DGND.", 11 AVSS (power) "Negative analog power supply", 17 DVDD (power) "Digital power supply", 20 DGND (power) "Digital ground", 22 DGND (power) "Digital ground", 26 AVSS (power) "Negative analog power supply", 29 AGND-B (power) "Group B(1) analog ground and the ground of REF-B. This pin must be tied to AGND-A and DGND.", 30 AGND-B (power) "Group B analog ground and the ground of REF-B. This pin must be tied to AGND-A and DGND.", 36 AVDD (power) "Positive analog power supply", 40 DGND (power) "Digital ground", 41 IOVDD (power) "Interface power", 42 DVDD (power) "Digital power supply", 49 EP "The thermal pad is internally connected to the substrate. This pad can be connected to AVSS or left floating. Keep the thermal pad separate from the digital ground, if possible."
part C pins: 16 NC "Not connected", 18 NC "Not connected", 19 NC "Not connected", 21 NC "Not connected", 25 NC "Not connected", 39 NC "Not connected"

## DAC8228SPAG
designator U?
Octal, Low Power, 14-Bit, +/- 16.5 V Output Parallel Input DAC, -40 to 105 degC, 64-pin QFP (PAG64), Green (RoHS & no Sb/Br); Manufacturer: Texas Instruments; PartNumber: DAC8228SPAG; DAC Channels: 8; DNL(Max)(+/-LSB): 1; Power Consumption(Typ)(mW): 107; Resolution(Bits): 14; Settling Time(us): 15; SubFamily: Precision DAC (=<10MSPS); DatasheetVersion: SBAS462A; PackageVersion: 4040282/C, 11/1996; PackageReference: PAG64; PackageDescription: 64-Pin Plastic Flat Pack, Body 10 x 10 mm, Pitch 0.50 mm; Supplier 1: Digi-Key; Supplier Part Number 1: 296-25470-ND; Supplier 2: Newark; Supplier Part Number 2: 53R2225; Supplier 3: Mouser; Supplier Part Number 3: 595-DAC8228SPAG; Eco-Plan: Green (RoHS & no Sb/Br); INL(Max)(+/-LSB): 1; Interface: Parallel; Mounting Technology: Surface Mount; Code_JEDEC: MS-026; ComponentLink1Description: Manufacturer URL; ComponentLink1URL: http://www.ti.com/; ComponentLink2Description: Datasheet; ComponentLink2URL: http://www.ti.com/general/docs/lit/getliterature.tsp?genericPartNumber=DAC8228&fileType=pdf; ComponentLink3Description: Package Specification; ComponentLink3URL: http://www.ti.com/lit/ml/mtqf006a/mtqf006a.pdf
footprint TI-PAG64_N (QFP, 64-Leads, Body 10x10mm, Pitch 0.5mm, IPC Medium Density)
footprint TI-PAG64_L (QFP, 64-Leads, Body 10x10mm, Pitch 0.5mm, IPC High Density)
footprint TI-PAG64_M (QFP, 64-Leads, Body 10x10mm, Pitch 0.5mm, IPC Low Density)
part A pins: 1 D11 (io) "Data bit 9", 2 D12 (io) "Data bit 12", 3 D13 (MSB) (io) "Data bit 13", 4 VMON (hiz) "Analog monitor output. This pin is either in Hi-Z status, or connected to one of the DAC outputs, reference buffer outputs, or offset DAC outputs, depending on the content of the Monitor Register.", 5 VOUT-3 (out) "DAC-3 output", 6 REF-A (in) "Group A reference input", 7 VOUT-2 (out) "DAC-2 output", 10 VOUT-1 (out) "DAC-1 output", 12 OFFSET-A (out) "OFFSET DAC-A analog output. Must be connected to AGND-A during single power-supply operation (AVSS = 0V). This pin is not intended to drive an external load.", 13 VOUT-0 (out) "DAC-0 output", 15 ~{USB}/BTC (in) "Input data format selection. Input data are in straight binary format when connected to DGND or in twos complement format when connected to IOVDD. Command data are always in straight binary format.", 16 ~{BUSY} (hiz) "This pin is an open drain and requires an external pullup resistor. BUSY goes low when the correction engine is running; see the Busy Pin section for details.", 17 ~{CLR} (in) "Level trigger. When the C\L\R\ pin is logic '0', all VOUT-X pins connect to AGND-x through switches and an internal 15kOhm resistor. When the C\L\R\ pin is logic '1' and L\D\A\C\ is logic '0', all VOUT-X pins connect to the (See Datasheet)", 18 ~{LDAC} (in) "Load DAC latch control input (active low). When L\D\A\C\ is low, the DAC latch is transparent and the contents of the DAC Data Register are transferred to it. The DAC output changes to the corresponding level simultaneously (See Datasheet)", 19 ~{RST} (in) "Reset input (active low). Logic low on this pin resets the DAC registers and DACs to the values defined by the RSTSEL pin. C\S\ must be at logic high when R\S\T\ is used.", 20 A0 (in) "Address bit A0 to specify the internal registers.", 21 A1 (in) "Address bit A1 to specify the internal registers.", 26 A2 (in) "Address bit A2 to specify the internal registers.", 27 A3 (in) "Address bit A3 to specify the internal registers.", 29 A4 (in) "Address bit A4 to specify the internal registers.", 33 GPIO (io) "General-purpose digital input/output. This pin is a bidirectional, open-drain, digital input/output, and requires an external pullup resistor. See the GPIO Pin section for details.", 34 RSTSEL (in) "Output reset selection. Selects the output voltage on the VOUT pin after power-on or hardware reset. Refer to the Power-On Reset section for details.", 36 VOUT-7 (out) "DAC-7 output", 37 OFFSET-B (out) "OFFSET DAC-B analog output. Must be connected to AGND-B during single-supply operation (AVSS = 0V). This pin is not intended to drive an external load.", 39 VOUT-6 (out) "DAC-6 output", 42 VOUT-5 (out) "DAC-5 output", 43 REF-B (in) "Group B reference input", 44 VOUT-4 (out) "DAC-4 output", 48 D0 (LSB) (io) "Data bit 0", 49 D1 (io) "Data bit 1", 50 D2 (io) "Data bit 2", 51 D3 (io) "Data bit 3", 52 D4 (io) "Data bit 4", 57 R/~{W} (in) "Read and write signal. High for reading operation; low for writing operation.", 58 ~{CS} (in) "Chip select input (active low)", 59 D5 (io) "Data bit 5", 60 D6 (io) "Data bit 6", 61 D7 (io) "Data bit 7", 62 D8 (io) "Data bit 8", 63 D9 (io) "Data bit 9", 64 D10 (io) "Data bit 10"
part B pins: 8 AVDD (power) "Positive analog power supply", 9 AGND-A (power) "Group A analog ground and the ground of REF-A. This pin must be tied to AGND-B and DGND.", 11 AVSS (power) "Negative analog power supply. Connect to AGND in single-supply operation.", 24 DVDD (power) "Digital power supply", 25 DGND (power) "Digital ground", 30 DGND (power) "Digital ground", 38 AVSS (power) "Negative analog power supply. Connect to AGND in single-supply operation.", 40 AGND-B (power) "Group B analog ground and the ground of REF-B. This pin must be tied to AGND-A and DGND.", 41 AVDD (power) "Positive analog power supply", 54 DGND (power) "Digital ground", 55 IOVDD (power) "Digital interface power supply", 56 DVDD (power) "Digital power supply"
part C pins: 14 NC "Not connected", 22 NC "Not connected", 23 NC "Not connected", 28 NC "Not connected", 31 NC "Not connected", 32 NC "Not connected", 35 NC "Not connected", 45 NC "Not connected", 46 NC "Not connected", 47 NC "Not connected", 53 NC "Not connected"

## DAC8228SPAGR
designator U?
Octal, Low Power, 14-Bit, +/- 16.5 V Output Parallel Input DAC, -40 to 105 degC, 64-pin QFP (PAG64), Green (RoHS & no Sb/Br); Manufacturer: Texas Instruments; PartNumber: DAC8228SPAGR; DAC Channels: 8; DNL(Max)(+/-LSB): 1; Power Consumption(Typ)(mW): 107; Resolution(Bits): 14; Settling Time(us): 15; SubFamily: Precision DAC (=<10MSPS); DatasheetVersion: SBAS462A; PackageVersion: 4040282/C, 11/1996; PackageReference: PAG64; PackageDescription: 64-Pin Plastic Flat Pack, Body 10 x 10 mm, Pitch 0.50 mm; Supplier 1: Digi-Key; Supplier Part Number 1: DAC8228SPAGR-ND; Supplier 2: Mouser; Supplier Part Number 2: 595-DAC8228SPAGR; Eco-Plan: Green (RoHS & no Sb/Br); INL(Max)(+/-LSB): 1; Interface: Parallel; Mounting Technology: Surface Mount; Code_JEDEC: MS-026; ComponentLink1Description: Manufacturer URL; ComponentLink1URL: http://www.ti.com/; ComponentLink2Description: Datasheet; ComponentLink2URL: http://www.ti.com/general/docs/lit/getliterature.tsp?genericPartNumber=DAC8228&fileType=pdf; ComponentLink3Description: Package Specification; ComponentLink3URL: http://www.ti.com/lit/ml/mtqf006a/mtqf006a.pdf
footprint TI-PAG64_N (QFP, 64-Leads, Body 10x10mm, Pitch 0.5mm, IPC Medium Density)
footprint TI-PAG64_L (QFP, 64-Leads, Body 10x10mm, Pitch 0.5mm, IPC High Density)
footprint TI-PAG64_M (QFP, 64-Leads, Body 10x10mm, Pitch 0.5mm, IPC Low Density)
part A pins: 1 D11 (io) "Data bit 9", 2 D12 (io) "Data bit 12", 3 D13 (MSB) (io) "Data bit 13", 4 VMON (hiz) "Analog monitor output. This pin is either in Hi-Z status, or connected to one of the DAC outputs, reference buffer outputs, or offset DAC outputs, depending on the content of the Monitor Register.", 5 VOUT-3 (out) "DAC-3 output", 6 REF-A (in) "Group A reference input", 7 VOUT-2 (out) "DAC-2 output", 10 VOUT-1 (out) "DAC-1 output", 12 OFFSET-A (out) "OFFSET DAC-A analog output. Must be connected to AGND-A during single power-supply operation (AVSS = 0V). This pin is not intended to drive an external load.", 13 VOUT-0 (out) "DAC-0 output", 15 ~{USB}/BTC (in) "Input data format selection. Input data are in straight binary format when connected to DGND or in twos complement format when connected to IOVDD. Command data are always in straight binary format.", 16 ~{BUSY} (hiz) "This pin is an open drain and requires an external pullup resistor. BUSY goes low when the correction engine is running; see the Busy Pin section for details.", 17 ~{CLR} (in) "Level trigger. When the C\L\R\ pin is logic '0', all VOUT-X pins connect to AGND-x through switches and an internal 15kOhm resistor. When the C\L\R\ pin is logic '1' and L\D\A\C\ is logic '0', all VOUT-X pins connect to the (See Datasheet)", 18 ~{LDAC} (in) "Load DAC latch control input (active low). When L\D\A\C\ is low, the DAC latch is transparent and the contents of the DAC Data Register are transferred to it. The DAC output changes to the corresponding level simultaneously (See Datasheet)", 19 ~{RST} (in) "Reset input (active low). Logic low on this pin resets the DAC registers and DACs to the values defined by the RSTSEL pin. C\S\ must be at logic high when R\S\T\ is used.", 20 A0 (in) "Address bit A0 to specify the internal registers.", 21 A1 (in) "Address bit A1 to specify the internal registers.", 26 A2 (in) "Address bit A2 to specify the internal registers.", 27 A3 (in) "Address bit A3 to specify the internal registers.", 29 A4 (in) "Address bit A4 to specify the internal registers.", 33 GPIO (io) "General-purpose digital input/output. This pin is a bidirectional, open-drain, digital input/output, and requires an external pullup resistor. See the GPIO Pin section for details.", 34 RSTSEL (in) "Output reset selection. Selects the output voltage on the VOUT pin after power-on or hardware reset. Refer to the Power-On Reset section for details.", 36 VOUT-7 (out) "DAC-7 output", 37 OFFSET-B (out) "OFFSET DAC-B analog output. Must be connected to AGND-B during single-supply operation (AVSS = 0V). This pin is not intended to drive an external load.", 39 VOUT-6 (out) "DAC-6 output", 42 VOUT-5 (out) "DAC-5 output", 43 REF-B (in) "Group B reference input", 44 VOUT-4 (out) "DAC-4 output", 48 D0 (LSB) (io) "Data bit 0", 49 D1 (io) "Data bit 1", 50 D2 (io) "Data bit 2", 51 D3 (io) "Data bit 3", 52 D4 (io) "Data bit 4", 57 R/~{W} (in) "Read and write signal. High for reading operation; low for writing operation.", 58 ~{CS} (in) "Chip select input (active low)", 59 D5 (io) "Data bit 5", 60 D6 (io) "Data bit 6", 61 D7 (io) "Data bit 7", 62 D8 (io) "Data bit 8", 63 D9 (io) "Data bit 9", 64 D10 (io) "Data bit 10"
part B pins: 8 AVDD (power) "Positive analog power supply", 9 AGND-A (power) "Group A analog ground and the ground of REF-A. This pin must be tied to AGND-B and DGND.", 11 AVSS (power) "Negative analog power supply. Connect to AGND in single-supply operation.", 24 DVDD (power) "Digital power supply", 25 DGND (power) "Digital ground", 30 DGND (power) "Digital ground", 38 AVSS (power) "Negative analog power supply. Connect to AGND in single-supply operation.", 40 AGND-B (power) "Group B analog ground and the ground of REF-B. This pin must be tied to AGND-A and DGND.", 41 AVDD (power) "Positive analog power supply", 54 DGND (power) "Digital ground", 55 IOVDD (power) "Digital interface power supply", 56 DVDD (power) "Digital power supply"
part C pins: 14 NC "Not connected", 22 NC "Not connected", 23 NC "Not connected", 28 NC "Not connected", 31 NC "Not connected", 32 NC "Not connected", 35 NC "Not connected", 45 NC "Not connected", 46 NC "Not connected", 47 NC "Not connected", 53 NC "Not connected"